# Altium schematic symbol library TI_National_Semiconductor_LM56BIM_NOPB.SchLib: 1 symbol
Pins are listed as number, name and electrical type; pins without a type are passive.

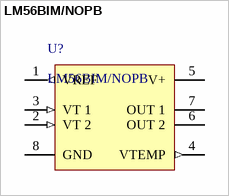
[diagram p0: symbol LM56BIM/NOPB]

## LM56BIM/NOPB
designator U?
Dual Output Low Power Thermostat, 8-pin Narrow SOIC, Pb-Free; Manufacturer: National Semiconductor; CompType: OtherParts; PowerWise: Y; PackageTopMarking: NSZXTT*LM56*BIM; ComponentLink1Description: LM56 Datasheet; ComponentLink2Description: LM56 Web Page; DatasheetVersion: Aug-2009; PackageReference: M08A; ComponentLink3URL: http://www.national.com/packaging/folders/m08a.html; ComponentLink3Description: M08A Package Page; ComponentLink1URL: http://www.national.com/ds/LM/LM56.pdf; PinCount: 8; Code_JEDEC: MS-012-AA; RevisionNote: Component URLs added; Code_IPC: SOIC127P600-8; PackageVersion: revM, May-2009; PackageDescription: SOIC Narrow, 4.9 x 3.9 x 1.45mm, 8 Lead, 1.27mm Pitch; ComponentLink2URL: http://www.national.com/pf/LM/LM56.html; RoHS: Y; PartNumber: LM56BIM/NOPB
footprint M08A_M
pins: 1 VREF (out), 2 VT 2 (in), 3 VT 1 (in), 4 VTEMP (out), 5 V+ (power), 6 OUT 2 (oc), 7 OUT 1 (oc), 8 GND (power)